# EAGLE library part C165-RF (library micro-siemens)
MICROPROCESSOR/PERIPHERAL DEVICE
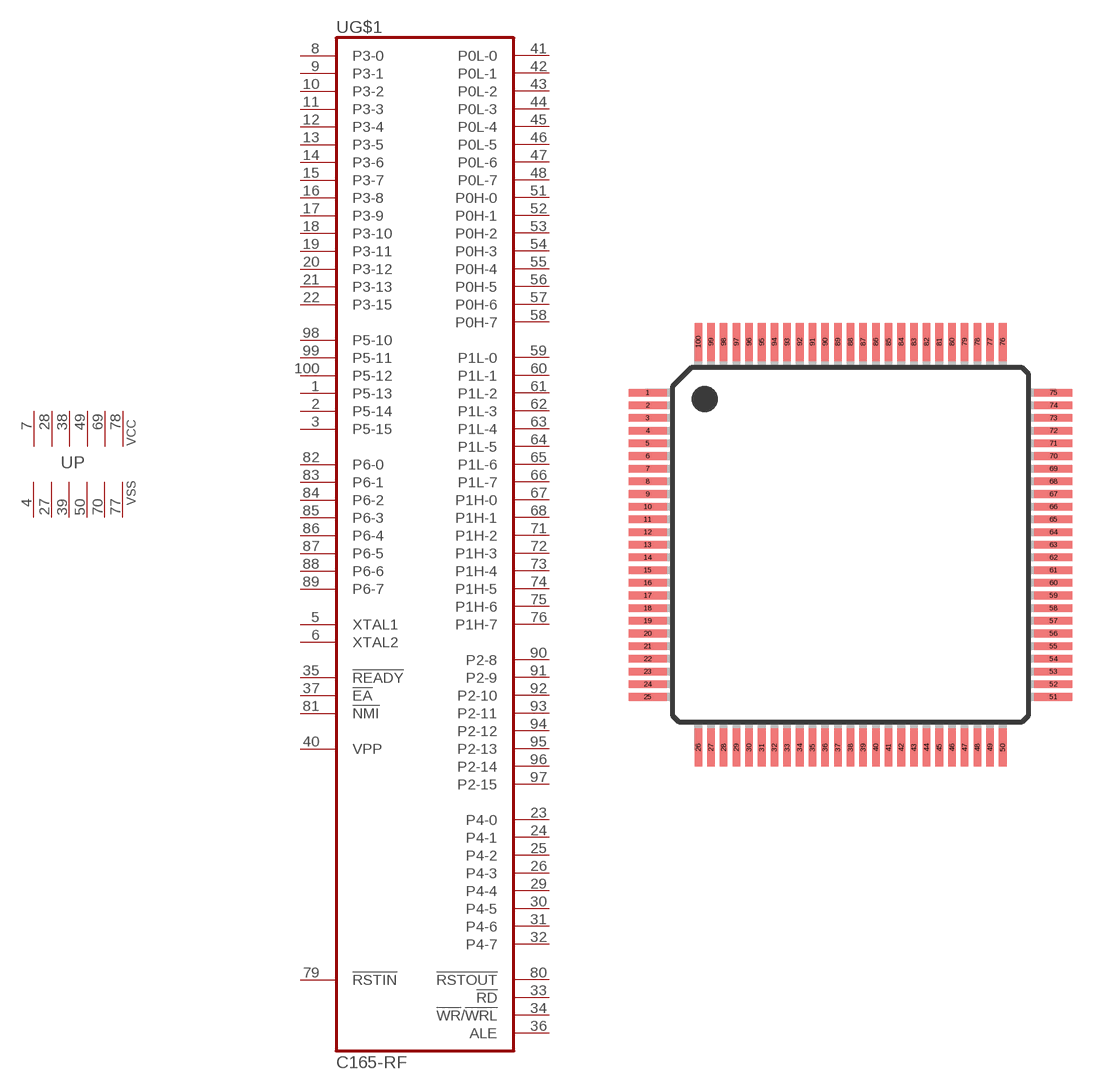
[diagram p2: symbol with the pads of TQFP100; footprint TQFP100]

Designator prefix U; gates G$1=C165 P=6_VCCVSS

## C165-RF  [TQFP100]
1  G$1:P5-13  in
2  G$1:P5-14  in
3  G$1:P5-15  in
4  P:VSS  pwr
5  G$1:XTAL1  in
6  G$1:XTAL2  out
7  P:VCC  pwr
8  G$1:P3-0
9  G$1:P3-1
10  G$1:P3-2
11  G$1:P3-3
12  G$1:P3-4
13  G$1:P3-5
14  G$1:P3-6
15  G$1:P3-7
16  G$1:P3-8
17  G$1:P3-9
18  G$1:P3-10
19  G$1:P3-11
20  G$1:P3-12
21  G$1:P3-13
22  G$1:P3-15
23  G$1:P4-0
24  G$1:P4-1
25  G$1:P4-2
26  G$1:P4-3
27  P:VSS  pwr
28  P:VCC  pwr
29  G$1:P4-4
30  G$1:P4-5
31  G$1:P4-6
32  G$1:P4-7
33  G$1:!RD  out
34  G$1:!WR!/!WRL  out
35  G$1:!READY  in
36  G$1:ALE  out
37  G$1:!EA  in
38  P:VCC  pwr
39  P:VSS  pwr
40  G$1:VPP  pas
41  G$1:P0L-0
42  G$1:P0L-1
43  G$1:P0L-2
44  G$1:P0L-3
45  G$1:P0L-4
46  G$1:P0L-5
47  G$1:P0L-6
48  G$1:P0L-7
49  P:VCC  pwr
50  P:VSS  pwr
51  G$1:P0H-0
52  G$1:P0H-1
53  G$1:P0H-2
54  G$1:P0H-3
55  G$1:P0H-4
56  G$1:P0H-5
57  G$1:P0H-6
58  G$1:P0H-7
59  G$1:P1L-0
60  G$1:P1L-1
61  G$1:P1L-2
62  G$1:P1L-3
63  G$1:P1L-4
64  G$1:P1L-5
65  G$1:P1L-6
66  G$1:P1L-7
67  G$1:P1H-0
68  G$1:P1H-1
69  P:VCC  pwr
70  P:VSS  pwr
71  G$1:P1H-2
72  G$1:P1H-3
73  G$1:P1H-4
74  G$1:P1H-5
75  G$1:P1H-6
76  G$1:P1H-7
77  P:VSS  pwr
78  P:VCC  pwr
79  G$1:!RSTIN  in
80  G$1:!RSTOUT  out
81  G$1:!NMI  in
82  G$1:P6-0
83  G$1:P6-1
84  G$1:P6-2
85  G$1:P6-3
86  G$1:P6-4
87  G$1:P6-5
88  G$1:P6-6
89  G$1:P6-7
90  G$1:P2-8
91  G$1:P2-9
92  G$1:P2-10
93  G$1:P2-11
94  G$1:P2-12
95  G$1:P2-13
96  G$1:P2-14
97  G$1:P2-15
98  G$1:P5-10  in
99  G$1:P5-11  in
100  G$1:P5-12  in

## Footprint TQFP100 (pad centres in mm)
Plastic Thin Quad Flat Pack
smd 1.5 x 0.3: 1 -8,6; 2 -8,5.5; 3 -8,5; 4 -8,4.5; 5 -8,4; 6 -8,3.5; 7 -8,3; 8 -8,2.5; 9 -8,2; 10 -8,1.5; 11 -8,1; 12 -8,0.5; 13 -8,0; 14 -8,-0.5; 15 -8,-1; 16 -8,-1.5; 17 -8,-2; 18 -8,-2.5; 19 -8,-3; 20 -8,-3.5; 21 -8,-4; 22 -8,-4.5; 23 -8,-5; 24 -8,-5.5; 25 -8,-6; 51 8,-6; 52 8,-5.5; 53 8,-5; 54 8,-4.5; 55 8,-4; 56 8,-3.5; 57 8,-3; 58 8,-2.5; 59 8,-2; 60 8,-1.5; 61 8,-1; 62 8,-0.5; 63 8,0; 64 8,0.5; 65 8,1; 66 8,1.5; 67 8,2; 68 8,2.5; 69 8,3; 70 8,3.5; 71 8,4; 72 8,4.5; 73 8,5; 74 8,5.5; 75 8,6
smd 0.3 x 1.5: 26 -6,-8; 27 -5.5,-8; 28 -5,-8; 29 -4.5,-8; 30 -4,-8; 31 -3.5,-8; 32 -3,-8; 33 -2.5,-8; 34 -2,-8; 35 -1.5,-8; 36 -1,-8; 37 -0.5,-8; 38 0,-8; 39 0.5,-8; 40 1,-8; 41 1.5,-8; 42 2,-8; 43 2.5,-8; 44 3,-8; 45 3.5,-8; 46 4,-8; 47 4.5,-8; 48 5,-8; 49 5.5,-8; 50 6,-8; 76 6,8; 77 5.5,8; 78 5,8; 79 4.5,8; 80 4,8; 81 3.5,8; 82 3,8; 83 2.5,8; 84 2,8; 85 1.5,8; 86 1,8; 87 0.5,8; 88 0,8; 89 -0.5,8; 90 -1,8; 91 -1.5,8; 92 -2,8; 93 -2.5,8; 94 -3,8; 95 -3.5,8; 96 -4,8; 97 -4.5,8; 98 -5,8; 99 -5.5,8; 100 -6,8